# EAGLE library part USBUF01P6 (library st-microelectronics)
EMI filter and line termination for USB upstream ports The USB specification requires upstream ports to be terminated with pull-up resistors from the D+ and D- lines to Vbus . For the implementation of USB systems, the radiated and conducted EMI should be kept within the required levels as stated by the FCC regulations. In addition to the requirements of termination and EMC compatibility, the computing devices are required to be tested for ESD susceptibility. The USBUF01P6 provides the recommended line termination while implementing a low pass filter to limit EMI levels and providing ESD protection which exceeds IEC 61000-4-2 level 4 standard. The device is packaged in a SOT-666, which is the smallest available lead-frame package (45% smaller than the standard SOT323).
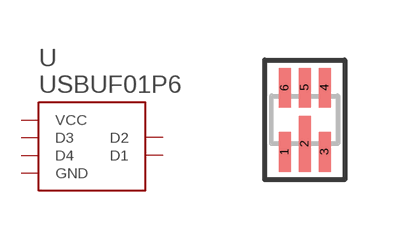
[diagram p0: symbol with the pads of SOT-666IP; footprint SOT-666IP]

Designator prefix -

## USBUF01P6  [SOT-666IP]
1  D1  out
2  GND  pwr
3  D2  out
4  D3  in
5  VCC  pwr
6  D4  in

## Footprint SOT-666IP (pad centres in mm)
smd 0.3 x 0.99: 1 -0.5,-0.805; 3 0.5,-0.805; 4 0.5,0.805; 5 0,0.805; 6 -0.5,0.805
smd 0.3 x 1.4: 2 0,-0.6